# Altium footprint library PcbLib_ZG.PcbLib: 87 footprints (part 3 of 6)
Each footprint in its own frame and in the unit in brackets; x right, y up, seen from the top. Pads: shape width x height; smd on the part's side, far side on the other; paste and mask are expansions set on the pad; w line width, h text height; cw(c..) or ccw(c..) is an arc to the next point about the centre after c.
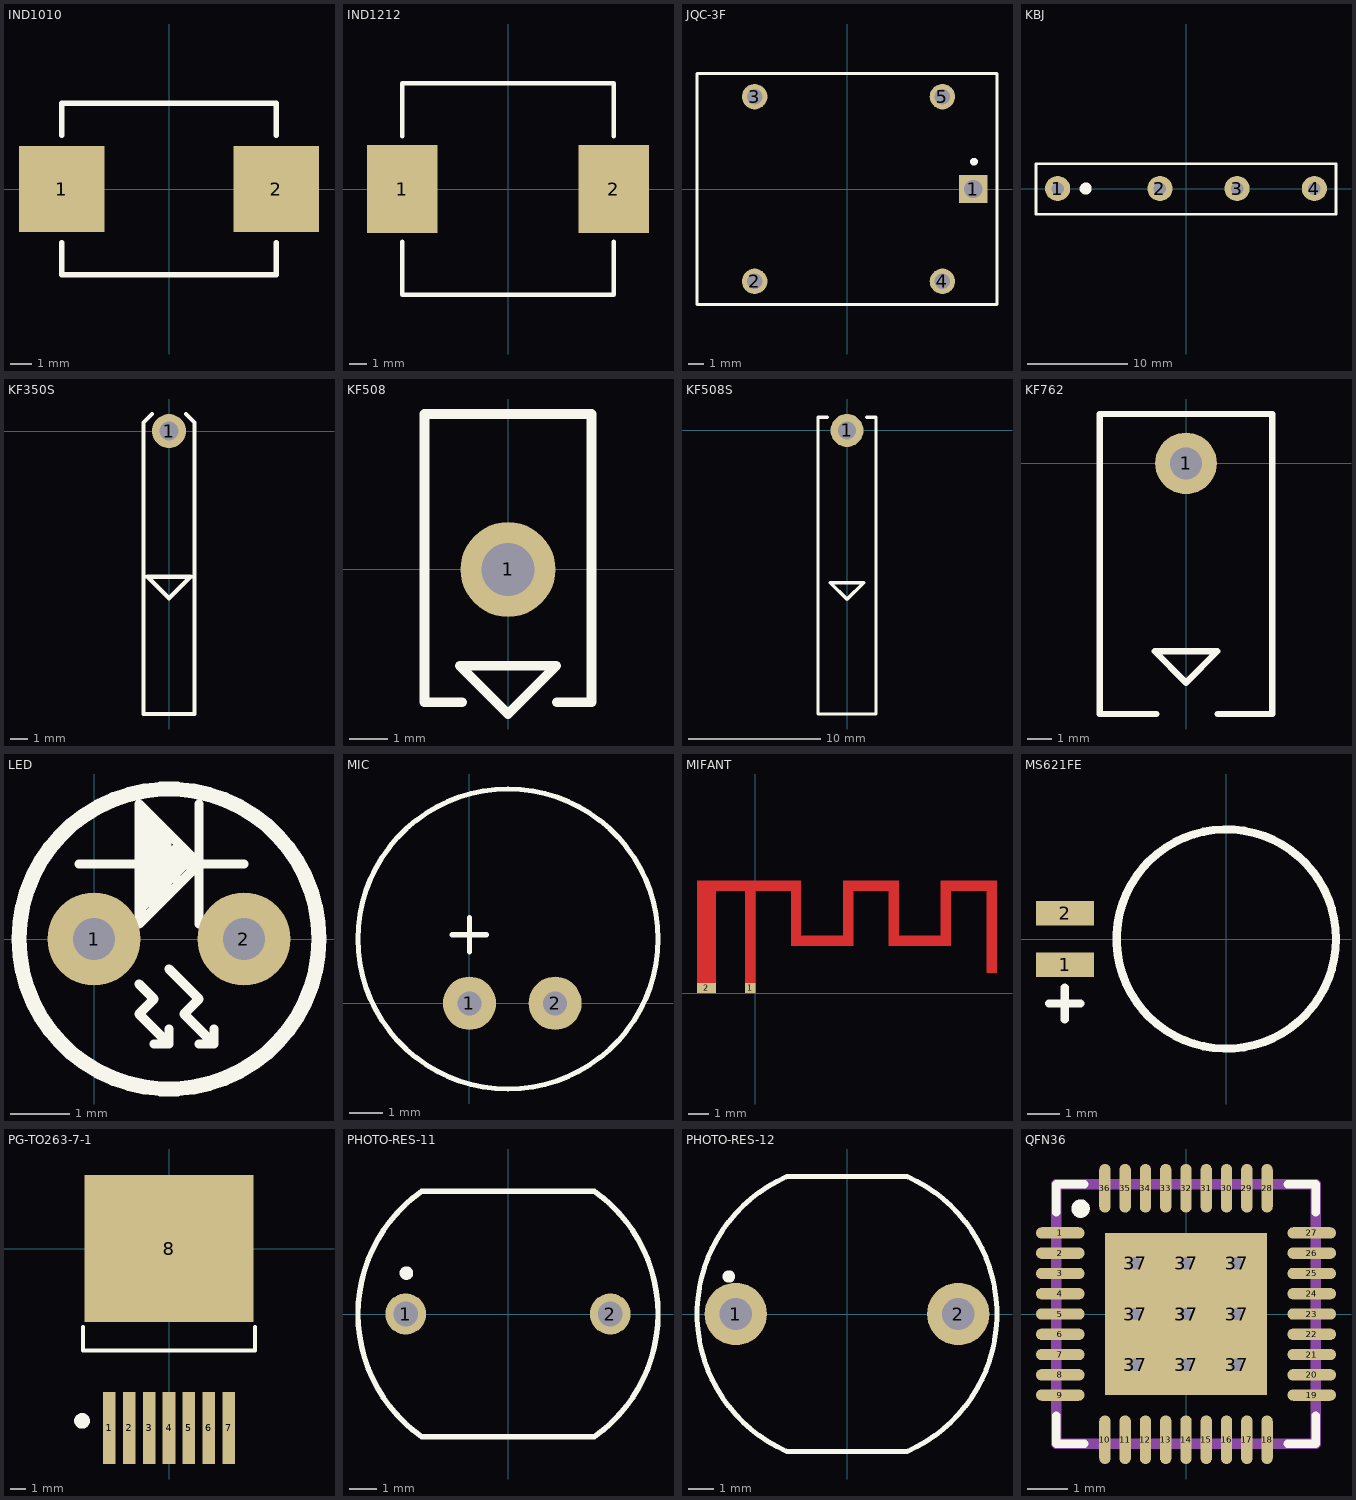
[diagram p2: the footprints below, top view; thin cyan lines are the x and y axes]

## IND1010 [mm] "SM Inductor; 2 Leads; Body 10x8mm (LxW)"
height 4
pads (2):
  rect 4x4 smd: 1(-5,0) 2(5,0)
Top Overlay:
  lines w0.254: -5,-2.5 -5,-4 5,-4 5,-2.5 ; -5,2.5 -5,4 5,4 5,2.5
3D body: height 4, standoff 0, extent -5,-4 5,4

## IND1212 [mm] "SM Inductor; 2 Leads; Body 12x12mm (LxW)"
height 6
pads (2):
  rect 4x5 smd: 1(-6,0) 2(6,0)
Top Overlay:
  lines w0.254: -6,-3 -6,-6 6,-6 6,-3 ; -6,3 -6,6 6,6 6,3
3D body: height 4, standoff 0, extent -6,-6 6,6

## JQC-3F [mm] "QianJin Relay"
height 15
pads (5):
  rect 1.85x1.85 hole 1.2: 1(8.2,0)
  round 1.65 hole 1: 2(-6,-6) 3(-6,6) 4(6.2,-6) 5(6.2,6)
Top Overlay:
  circle w0.25: c8.257,1.778 r0.125
  lines w0.2: -9.75,-7.5 9.75,-7.5 9.75,7.5 -9.75,7.5 -9.75,-7.5
Mechanical 13:
  lines w0.1: -9.75,-7.5 9.75,-7.5 9.75,7.5 -9.75,7.5 -9.75,-7.5
3D body: height 15, standoff 0, extent -9.75,-7.62 9.75,7.62

## KBJ [mm]
height 20
pads (4):
  round 2.5 hole 1.25: 1(-12.8,0) 2(-2.6,0) 3(5.1,0) 4(12.8,0)
Top Overlay:
  circle w1: c-10,0 r0.1
  lines w0.254: -14.96,-2.54 14.96,-2.54 14.96,1.27 ; -14.96,-2.46 -14.96,2.46 14.96,2.46 14.96,1.21

## KF350S [mm] "with plug"
height 10
pads (1):
  round 2 hole 1.1: 1(0,0)
Top Overlay:
  lines w0.254: -1,1 -1.5,0.5 -1.5,-16.6 1.5,-16.6 1.5,0.5 1,1 ; -1.27,-8.54 0,-8.54 1.27,-8.54 0,-9.81 -1.27,-8.54
3D body: height 10, standoff 0, extent -1.5,-16.6 1.5,1

## KF508 [mm]
height 10
pads (1):
  round 2.5 hole 1.4: 1(0,0)
Top Overlay:
  lines w0.254: -1.21,-3.5 -2.2,-3.5 -2.2,4.1 2.2,4.1 2.2,-3.5 1.29,-3.5 ; -1.27,-2.54 0,-2.54 1.27,-2.54 0,-3.81 -1.27,-2.54
3D body: height 10, standoff 0, extent -2.2,-3.5 2.2,4.1

## KF508S [mm] "with plug"
height 10
pads (1):
  round 2.5 hole 1.4: 1(0,0)
Top Overlay:
  lines w0.254: -1.5,1 -2.2,1 -2.2,-21.5 2.2,-21.5 2.2,1 1.5,1 ; -1.27,-11.54 0,-12.81 1.27,-11.54 0,-11.54 -1.27,-11.54
3D body: height 10, standoff 0, extent -2.2,-21.5 2.2,1

## KF762 [mm]
height 12
pads (1):
  round 2.5 hole 1.3: 1(0,0)
Top Overlay:
  lines w0.254: -1.21,-10.16 -3.5,-10.16 -3.5,2 3.5,2 3.5,-10.16 1.29,-10.16 ; -1.27,-7.62 0,-8.89 1.27,-7.62 0,-7.62 -1.27,-7.62
3D body: height 12, standoff 0, extent -3.5,-10 3.5,2

## LED [mil]
pads (2):
  round 62 hole 28: 1(0,0) 2(100,0)
Top Overlay:
  circle w10: c50,0 r100
  rectangle: 30,26.8 46.8,72
  lines w5: 49.06,70.94 49.06,29.06 55,35 55,61.77 ; 53.49,53.54 52,52.06 59,52.06 55,56.06 55,49.89 55,43 ; 55,43 49.06,48.94 49.06,55.83 55,61.77 ; 55,43 55,61.77 ; 55,43 35.48,23.48 35.48,78 41.24,72.24 41.24,78.24 33.8,70.8 33.8,79.8 32,78 32,20 61,49 61,55.77 55,61.77
  lines w6: -10,50 100,50 ; 30,-30 40,-40 30,-50 50,-70 ; 30,30 30,33.07 ; 40,-70 50,-70 ; 50,-60 50,-70 ; 50,-20 70,-40 60,-50 80,-70 ; 70,-70 80,-70 ; 70,10 70,90 ; 80,-60 80,-70 ; 30,10 30,90 70,50 30,10

## MIC [mil]
pads (2):
  round 62 hole 28: 1(0,0) 2(100,0)
Top Overlay:
  circle w6: c45,75 r175
  lines w6: -20,80 20,80 ; 0,60 0,100

## MIFANT [mm]
pads (2):
  rect 0.5x0.5 smd paste-0.5 mask-0.5: 1(-0.25,0.25)
  rect 0.9x0.5 smd paste-0.9 mask-0.9: 2(-2.35,0.25)
Top Layer:
  rectangle: 11.1,0.96 11.6,5.4
  rectangle: 8.9,4.9 11.6,5.4
  rectangle: 8.9,2.26 9.4,5.4
  rectangle: 6.4,2.26 9.4,2.76
  rectangle: 6.4,2.26 6.9,5.4
  rectangle: 4.2,4.9 6.9,5.4
  rectangle: 4.2,2.26 4.7,5.4
  rectangle: 1.7,2.26 4.7,2.76
  rectangle: 1.7,2.26 2.2,5.4
  rectangle: -2.8,4.9 2.2,5.4
  rectangle: -2.8,0 -1.9,5.4
  rectangle: -0.5,0 0,5.4

## MS621FE [mm]
height 2.7
pads (2):
  rect 1.8x0.75 smd: 1(-5,-0.8) 2(-5,0.8)
Top Overlay:
  circle w0.254: c0,0 r3.4
  lines w0.254: -5.5,-2 -4.52,-2 ; -5.01,-2.5 -5.01,-1.5
3D body: height 2.7, standoff 0, extent -3.373,-3.393 3.4,3.393

## PG-TO263-7-1 [mm]
height 4.5
pads (8):
  rect 0.8x4.6 smd: 1(-3.81,-11.45) 2(-2.54,-11.45) 3(-1.27,-11.45) 4(0,-11.45) 5(1.27,-11.45) 6(2.54,-11.45) 7(3.81,-11.45)
  rect 10.8x9.4 smd: 8(0,0)
Top Overlay:
  circle w0.5: c-5.55,-11 r0.25
  lines w0.254: -5.5,-5 -5.5,-6.5 5.5,-6.5 5.5,-5
3D body: height 4.5, standoff 0, extent -5.5,-6.5 5.5,5

## PHOTO-RES-11 [mm] "Resister 11mm x 1.85mm 7mm"
height 1.85
pads (2):
  round 1.5 hole 0.9: 1(-3.75,0) 2(3.75,0)
Top Overlay:
  circle w0.25: c-3.725,1.5 r0.125
  lines w0.2: -3.155,-4.505 cw(c0,0) -3.155,4.505 ; -3.155,-4.5 3.155,-4.5 ; -3.155,4.5 3.155,4.5 ; 3.155,-4.505 ccw(c0,0) 3.155,4.505
3D body: height 2, standoff 0, extent -5.5,-4.5 5.5,4.5

## PHOTO-RES-12 [mm] "Resister 12mm x 11mm x 2mm 9.5mm"
height 2
pads (2):
  round 2.5 hole 1.3: 1(-4.45,0) 2(4.45,0)
Top Overlay:
  circle w0.25: c-4.725,1.5 r0.125
  lines w0.2: -2.44,-5.481 cw(c0,0) -2.44,5.481 ; -2.4,-5.5 2.4,-5.5 ; -2.4,5.5 2.4,5.5 ; 2.44,-5.481 ccw(c0,0) 2.44,5.481
3D body: height 2, standoff 0, extent -6,-5.5 6,5.5

## QFN36 [mm]
height 1
pads (46):
  oval 1.2x0.28 smd paste+0 mask+0.07: 1(-3.1,2) 2(-3.1,1.5) 3(-3.1,1) 4(-3.1,0.5) 5(-3.1,0) 6(-3.1,-0.5) 7(-3.1,-1) 8(-3.1,-1.5) 9(-3.1,-2) 19(3.1,-2) 20(3.1,-1.5) 21(3.1,-1) 22(3.1,-0.5) 23(3.1,0) 24(3.1,0.5) 25(3.1,1) 26(3.1,1.5) 27(3.1,2)
  oval 0.28x1.2 smd paste+0 mask+0.07: 10(-2,-3.1) 11(-1.5,-3.1) 12(-1,-3.1) 13(-0.5,-3.1) 14(0,-3.1) 15(0.5,-3.1) 16(1,-3.1) 17(1.5,-3.1) 18(2,-3.1) 28(2,3.1) 29(1.5,3.1) 30(1,3.1) 31(0.5,3.1) 32(0,3.1) 33(-0.5,3.1) 34(-1,3.1) 35(-1.5,3.1) 36(-2,3.1)
  rect 1x1 on Top Paste paste+0 mask-1.1: 37(-1.25,-1.25) 37(-1.25,0) 37(0,-1.25) 37(0,0) 37(0,1.25) 37(1.25,-1.25) 37(1.25,0) 37(1.25,1.25)
  rect 1x1 smd paste+0 mask-1.1: 37(-1.25,1.25)
  rect 4x4 smd paste-4.5 mask+0: 37(0,0)
via -1.25,1.25 diameter 0.6 hole 0.3
via 0,1.25 diameter 0.6 hole 0.3
via 1.25,1.25 diameter 0.6 hole 0.3
via 1.25,0 diameter 0.6 hole 0.3
via 0,0 diameter 0.6 hole 0.3
via -1.25,0 diameter 0.6 hole 0.3
via -1.25,-1.25 diameter 0.6 hole 0.3
via 0,-1.25 diameter 0.6 hole 0.3
via 1.25,-1.25 diameter 0.6 hole 0.3
Top Overlay:
  circle w0.254: c-2.6,2.6 r0.1
  lines w0.2: -3.2,-2.5 -3.2,-3.2 -2.5,-3.2 ; -3.2,2.5 -3.2,3.2 -2.5,3.2 ; 2.5,-3.2 3.2,-3.2 3.2,-2.5 ; 2.5,3.2 3.2,3.2 3.2,2.5
Mechanical 1:
  lines w0.254: -3.2,-3.2 3.2,-3.2 3.2,3.2 -3.2,3.2 -3.2,-3.2
3D body: height 1, standoff 0, extent -3.2,-3.2 3.2,3.2